# Altium schematic symbol library GenericComponents.SchLib: 86 symbols
Pins are listed as number, name and electrical type; pins without a type are passive.

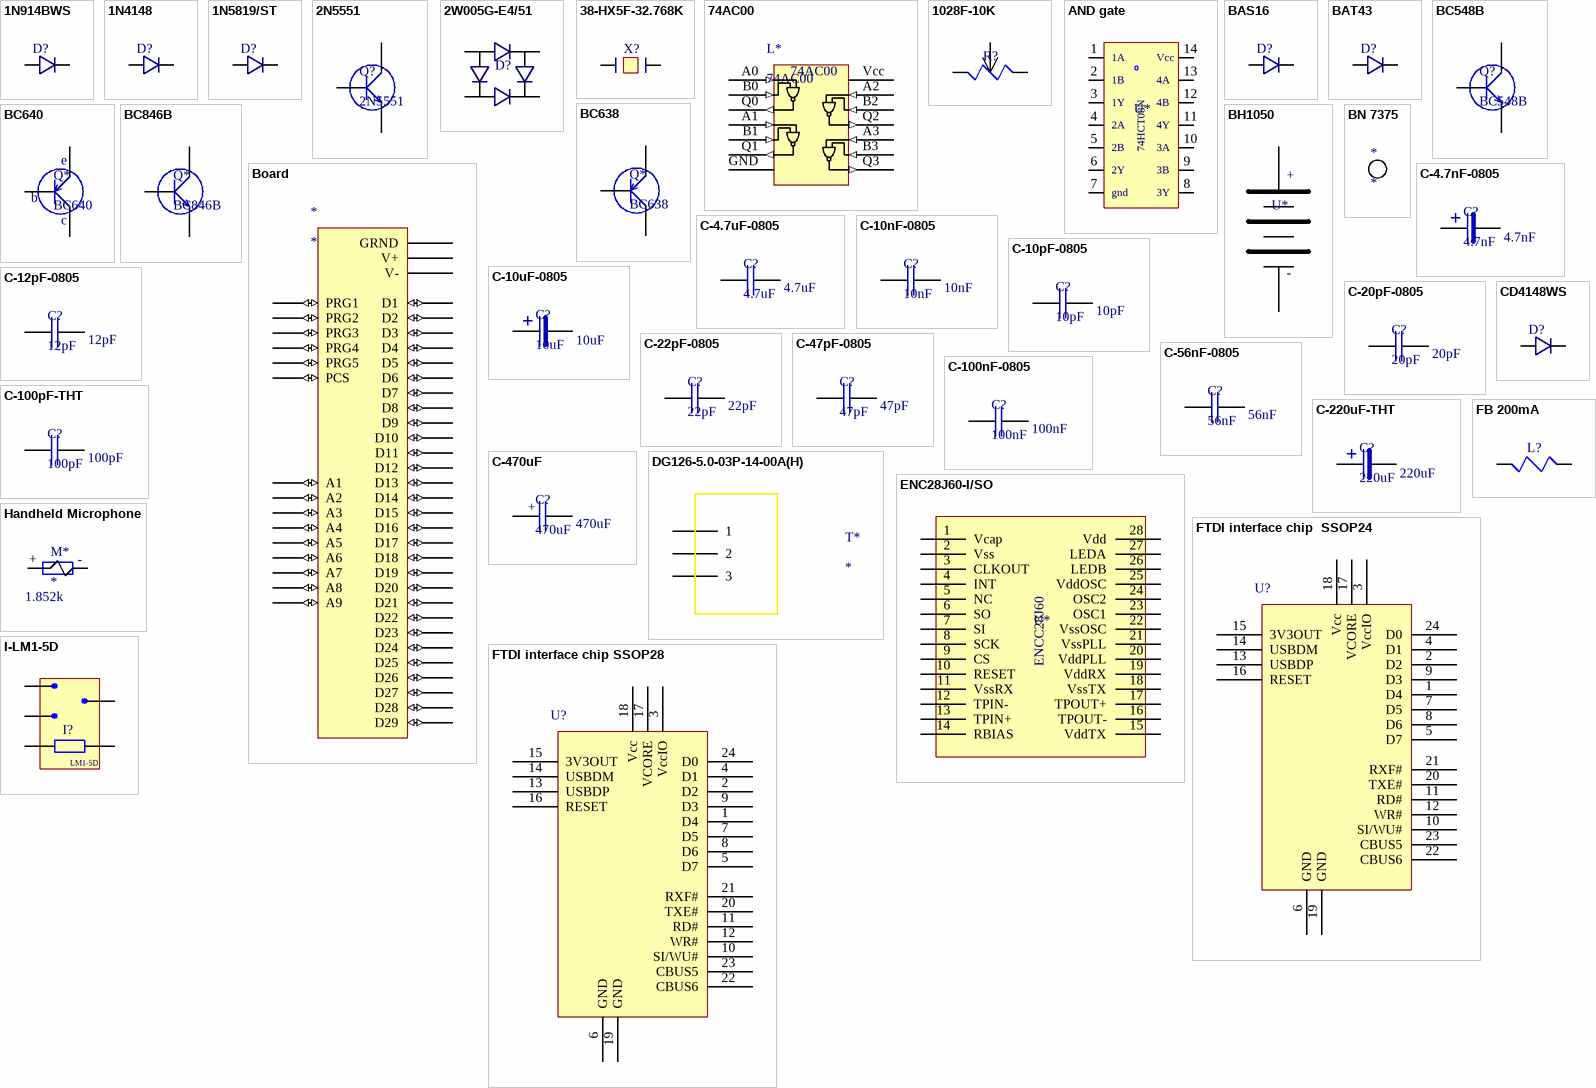
[diagram p0: symbols 1N914BWS to I-LM1-5D]

## 1N914BWS
designator D?  (value not drawn)
Dioda: comutatie; 75V; 50mA; 100mA; SOT23; 6ns; MinQuantity: 25; Cost: 0.072; Link: http://www.tme.eu/en/details/1n914bws/smd-universal-diodes/fairchild-semiconductor/
simulation model 1N914BWS (Model Description)
footprint SMD-0805
pins: 1 C, 2 A

## 1N4148
designator D?  (value not drawn)
Dioda: comutatie; SMD; 100V; 150mA; 4ns; 0805; MinQuantity: 25; Cost: 0.085; Link: http://www.tme.eu/ro/details/1n4148-0805/diode-universale-smd/dc-components/cd4148ws0805c/
simulation model 1N914BWS (Model Description)
footprint SMD-0805
pins: 1 C, 2 A

## 1N5819/ST
designator D?  (value not drawn)
Diode: Schottky rectifying; 40V; 1A; DO41; Package: Ammo Pack; MinQuantity: 25; Cost: 0.21; Link: http://www.tme.eu/ro/details/1n5819_st/diode-schottky-tht/st-microelectronics/1n5819/#
simulation model 1N914BWS (Model Description)
footprint THT2-1CM (THT, 2 slot, 1cm)
pins: 1 C, 2 A

## 2N5551
designator Q?
Tranzistor: bipolar, NPN; 180V; 600mA; 350mW; TO92; MinQuantity: 25; Cost: 0.071; Link: http://www.tme.eu/ro/details/2n5551/tranzistori-tht-npn/diotec-semiconductor/#
footprint TO-92
simulation model 2N5551 (Model Description)
pins: 1 B, 2 E, 3 C

## 2W005G-E4/51
designator D?  (value not drawn)
Punte redresoare; rotund; 50V; 2A; MinQuantity: 25; Code: VISHAY 2W005G-E4/51; Cost: 1.12; Link: http://www.tme.eu/ro/details/2w005g-e4_51/punte-redresoare-diode-unifazica-rotunda/vishay/
simulation model Model Name (Model Description)
footprint 2W005G-E4/51 (Punte redresoare; rotund; 50V; 2A)
pins: 1 +, 2, 3 -, 4

## 38-HX5F-32.768K
designator X?  (value not drawn)
Resonator: quartz; 32.768kHz; ±20ppm; 12.5pF; THT; Ø3.1x8mm; MinQuantity: 1; Cost: 0.718; Link: http://www.tme.eu/ro/details/38-hx5f-32.768k/cristale-de-cuart-tht/ilsi/38-hx5f125-32768khz/#
simulation model 1N914BWS (Model Description)
footprint THT2-254 (THT, 2 slot, 2.54mm)
pins: 1 C, 2 A

## 74AC00
designator L*
Quad 2-Input NAND Gate
footprint SO-14
pins: A0 1 (in), A1 (in), A2 (in), A3 (in), B0 (in), B1 (in), B2 (in), B3 (in), GND (power), Q0 (out), Q1 (out), Q2 (out), Q3 (out), Vcc (power)

## 1028F-10K
designator R?  (value not drawn)
Potentiometru: de montare; singura tura, orizontal; 10kO; 500mW; MinQuantity: 25; Cost: 1.39; Link: http://www.tme.eu/ro/details/1028f-10k/trimere-tht-cu-o-singura-tura/sr-passives/
simulation model 1N914BWS (Model Description)
footprint 1028F-10K (Potentiometru: de montare; singura tura, orizontal; 10kO; 500mW)
pins: 1, 2, 3

## AND gate
designator U*  (value not drawn)
IC: digital; AND; Channels:4; Inputs:2; THT; DIP14; Series: HCT; MinQuantity: 1; Cost: 2.24; Link: https://www.tme.eu/gb/details/74hct08n.652/gates-inverters/nexperia/
footprint DIP-18
pins: 1, 2, 3, 4, 5, 6, 7, 8, 9, 10, 11, 12, 13, 14
text: 1A; Vcc; 1B; 4A; 1Y; 4B; 2A; 74HCT08N; 4Y; 2B; 3A; 2Y; 3B; gnd; 3Y

## BAS16
designator D?  (value not drawn)
Dioda: comutatie; 75V; 50mA; 100mA; SOT23; 6ns; MinQuantity: 25; Code: NXP BAS16.215; Cost: 0.072; Link: http://www.tme.eu/ro/details/bas16/diode-universale-smd/nxp/bas16215/#
footprint SOT-23
simulation model Model Name (Model Description)
pins: 1 C, 3 A

## BAT43
designator D?  (value not drawn)
Dioda: redresoare Schottky; 30V; 15mA; 100mA; DO35; 5ns; MinQuantity: 25; Cost: 0.09; Link: http://www.tme.eu/ro/details/bat43/diode-schottky-tht/st-microelectronics/
simulation model 1N914BWS (Model Description)
footprint THT2-1CM (THT, 2 slot, 1cm)
pins: 1 C, 2 A

## BC548B
designator Q?
Tranzistor: NPN; bipolar; 30V; 100mA; 500mW; TO92; MinQuantity: 25; Cost: 0.08584; Link: http://www.tme.eu/ro/details/bc548b/tranzistori-tht-npn/diotec-semiconductor/
footprint TO-92
simulation model 2N5551 (Model Description)
pins: 1 B, 2 E, 3 C

## BC638
designator Q*
Tranzistor: bipolar, PNP; 60V; 1A; 800mW; TO92; MinQuantity: 10; Cost: 0.175; Link: http://www.tme.eu/ro/details/bc638/tranzistori-tht-pnp/fairchild-semiconductor/bc638ta
footprint TO-92
simulation model BC638 (Model Description)
pins: 1 E, 2 C, 3 B

## BC640
designator Q*
Tranzistor: bipolar, PNP; 60V; 1A; 800mW; TO92; MinQuantity: 10; Cost: 0.189; Link: http://www.tme.eu/ro/details/bc640/tranzistori-tht-pnp
footprint TO-92
simulation model BC640 (Model Description)
pins: 1 E, 2 C, 3 B
text: e; b; c

## BC846B
designator Q*
Tranzistor: bipolar, NPN; 65V; 100mA; SOT23; MinQuantity: 25; Cost: 0.072; Link: http://www.tme.eu/ro/details/bc846b/tranzistori-smd-npn/nxp/bc846b215
footprint SOT-23
simulation model BC846B (Model Description)
pins: 1 B, 2 E, 3 C

## BH1050
designator U*  (value not drawn)
Socket; Size: CR2430; Mounting: horizontal; Leads: for PCB; 7.49mm
footprint BH1050 (Socket; Size: CR2430; Mounting: horizontal; Leads: for PCB; 7.49mm)
pins: 1 +, 2 -

## BN 7375
designator *
footprint BN 7375

## Board
designator *
footprint Standard Board 100x70
pins: A1 (io), A2 (io), A3 (io), A4 (io), A5 (io), A6 (io), A7 (io), A8 (io), A9 (io), D1 (io), D2 (io), D3 (io), D4 (io), D5 (io), D6 (io), D7 (io), D8 (io), D9 (io), D10 (io), D11 (io), D12 (io), D13 (io), D14 (io), D15 (io), D16 (io), D17 (io), D18 (io), D19 (io), D20 (io), D21 (io), D22 (io), D23 (io), D24 (io), D25 (io), D26 (io), D27 (io), D28 (io), D29 (io), GRND, P1 PRG1 (io), P2 PRG2 (io), P3 PRG3 (io), P4 PRG4 (io), P5 PRG5 (io), P+ V+ (power), P- V- (power), PCS (io)

## C-4.7nF-0805
designator C?, comment 4.7nF
Condensator: ceramic; 4,7nF; 6,3V; X5R; ±10%; SMD; 0805; -55÷125°C; MinQuantity: 10; Cost: 0.087; Link: http://www.tme.eu/ro/details/08056d475kat2a/condensatoare-mlcc-smd-0805/avx/#; Value: 4.7nF
footprint SMD-0805
simulation model Model Name (Model Description)
pins: 1, 2

## C-4.7uF-0805
designator C?, comment 4.7uF
Condensator: ceramic; 4.7uF; 50V; X7R; ±10%; SMD; 0805; -55÷125°C; MinQuantity: 10; Cost: 0.031; Link: http://www.tme.eu/en/details/cl21f475zpfnnne/0805-mlcc-smd-capacitors/samsung/; Value: 4.7uF
footprint SMD-0805
simulation model Model Name (Model Description)
pins: 1, 2

## C-10nF-0805
designator C?, comment 10nF
Condensator: ceramic; 10nF; 50V; X7R; ±10%; SMD; 0805; -55÷125°C; MinQuantity: 10; Cost: 0.031; Link: http://www.tme.eu/en/details/08051c103k4z2a/0805-mlcc-smd-capacitors/avx/; Value: 10nF
footprint SMD-0805
simulation model Model Name (Model Description)
pins: 1, 2

## C-10pF-0805
designator C?, comment 10pF
Capacitor: ceramic; 10pF; 100V; C0G; ±5%; SMD; 0805; -55÷125°C; MinQuantity: 10; Code: 08051A100JAT2A; Cost: 0.033; Link: http://www.tme.eu/ro/details/08051a100jat2a/condensatoare-mlcc-smd-0805/avx/#; Value: 10pF
footprint SMD-0805
simulation model Model Name (Model Description)
pins: 1, 2

## C-10uF-0805
designator C?, comment 10uF
Condensator: ceramic; 10uF; 16V; X5R; ±10%; SMD; 0805; -55÷125°C; MinQuantity: 10; Code: C0805C106K4PAC; Cost: 0.417; Link: http://www.tme.eu/ro/details/c0805c106k4pac/condensatoare-mlcc-smd-0805/kemet/#; Value: 10uF
footprint SMD-0805
simulation model Model Name (Model Description)
pins: 1, 2

## C-12pF-0805
designator C?, comment 12pF
Condensator: ceramic; MLCC; 12pF; 50V; C0G; ±5%; SMD; 0805; MinQuantity: 10; Code: CC0805JRNPO9BN120; Cost: 0.033; Link: https://www.tme.eu/ro/details/cc0805jrnpo9120/condensatoare-mlcc-smd-0805/yageo/cc0805jrnpo9bn120/; Value: 12pF
footprint SMD-0805
simulation model Model Name (Model Description)
pins: 1, 2

## C-20pF-0805
designator C?, comment 20pF
Capacitor: ceramic; MLCC; 20pF; 50V; C0G; ±5%; SMD; 0805; -55÷125°C; MinQuantity: 10; Code: CL21C200JBANNNC; Cost: 0.033; Link: http://www.tme.eu/hu/details/cl21c200jbannnc/mlcc-smd-0805-kondenzatorok/samsung/#; Value: 20pF
footprint SMD-0805
simulation model Model Name (Model Description)
pins: 1, 2

## C-22pF-0805
designator C?, comment 22pF
Capacitor: ceramic; 22pF; 50V; C0G; ±5%; SMD; 0805; -55÷125°C; MinQuantity: 10; Code: 08055A220JAT2A; Cost: 1.62; Link: http://www.tme.eu/hu/details/08055a220jat2a/mlcc-smd-0805-kondenzatorok/avx/#; Value: 22pF
footprint SMD-0805
simulation model Model Name (Model Description)
pins: 1, 2

## C-47pF-0805
designator C?, comment 47pF
Condensator: ceramic; 47pF; 50V; C0G; ±5%; SMD; 0805; -55÷125°C; MinQuantity: 10; Code: C0805C470J5GAC; Cost: 0.047; Link: http://www.tme.eu/ro/details/c0805c470j5gac/condensatoare-mlcc-smd-0805/kemet/#; Value: 47pF
footprint SMD-0805
simulation model Model Name (Model Description)
pins: 1, 2

## C-56nF-0805
designator C?, comment 56nF
Condensator: ceramic; 56nF; 50V; X7R; ±10%; SMD; 0805; -55÷125°C; MinQuantity: 10; Cost: 0.031; Link: http://www.tme.eu/en/details/cl21b563kbcnnnc/0805-mlcc-smd-capacitors/samsung/; Value: 56nF
footprint SMD-0805
simulation model Model Name (Model Description)
pins: 1, 2

## C-100nF-0805
designator C?, comment 100nF
Condensator: ceramic; 100nF; 50V; X7R; ±10%; SMD; 0805; -55÷125°C; MinQuantity: 10; Code: AVX 08055C104KAT2A; Cost: 0.031; Link: http://www.tme.eu/ro/details/08055c104kat2a/condensatoare-mlcc-smd-0805/avx/#; Value: 100nF
footprint SMD-0805
simulation model Model Name (Model Description)
pins: 1, 2

## C-100pF-THT
designator C?, comment 100pF
Capacitor: ceramic; MLCC, monolithic; 100pF; 100V; C0G; ±5%; THT; MinQuantity: 10; Code: C315C101J1G5TA; Cost: 0.022; Link: http://www.tme.eu/ro/details/c315c101j1g5ta/condensatoare-mlcc-tht/kemet/#; Value: 100pF
simulation model Model Name (Model Description)
footprint THT2-254 (THT, 2 slot, 2.54mm)
pins: 1, 2

## C-220uF-THT
designator C?, comment 220uF
Condensator: electrolitic; THT; 220uF; 25V; Ø8x20mm; Term: axial; MinQuantity: 10; Code: CE-220/25A; Cost: 1.4; Link: http://www.tme.eu/ro/details/ce-220_25a/condensatoare-electrolitice-tht-85c/; Value: 220uF
simulation model Model Name (Model Description)
footprint THT2cm (Generic THT Component 2cm)
pins: 1, 2

## C-470uF
designator C?, comment 470uF
Condensator: electrolitic; THT; 470uF; 10V; Ø6,3x11mm; MinQuantity: 10; Code: SD1A477M6L011PC; Cost: 0.18; Link: http://www.tme.eu/ro/details/sd1a477m6l011pc/condensatoare-electrolitice-tht-85c/samwha/; Value: 470uF
simulation model Model Name (Model Description)
footprint THT2-254 (THT, 2 slot, 2.54mm)
pins: 1, 2
text: +

## CD4148WS
designator D?  (value not drawn)
Diode: switching; SMD; 100V; 150mA; 4ns; 0805; MinQuantity: 25; Code: CD4148WS(0805C); Cost: 0.0792; Link: http://www.tme.eu/en/details/1n4148-0805/smd-universal-diodes/dc-components/cd4148ws0805c/
footprint SMD-0805
simulation model Model Name (Model Description)
pins: 1 C, 2 A

## DG126-5.0-03P-14-00A(H)
designator T*
Connector
footprint DG126-5.0-03P-14-00A(H) (Connector 3 PIN)
pins: 1, 2, 3

## ENC28J60-I/SO
designator U*  (value not drawn)
Controler Ethernet; 10Base-T; SPI; SO28; 3,1÷3,6V; Link: https://www.tme.eu/ro/details/enc28j60-i_so/circuite-integrate-ethernet/microchip-technology/
footprint SO-28
pins: 1 Vcap, 2 Vss, 3 CLKOUT, 4 INT, 5 NC, 6 SO, 7 SI, 8 SCK, 9 CS, 10 RESET, 11 VssRX, 12 TPIN-, 13 TPIN+, 14 RBIAS, 15 VddTX, 16 TPOUT-, 17 TPOUT+, 18 VssTX, 19 VddRX, 20 VddPLL, 21 VssPLL, 22 VssOSC, 23 OSC1, 24 OSC2, 25 VddOSC, 26 LEDB, 27 LEDA, 28 Vdd
text: ENCC28J60

## FB 200mA
designator L?  (value not drawn)
Ferrite: bead; 150ohm; Mounting: SMD; 200mA; Case:0805; -55÷125°C; MinQuantity: 25; Cost: 1.39; Link: https://www.tme.eu/gb/details/blm21ag151sn1d/ferrite-beads/murata/
footprint SMD-0805
pins: 1, 2

## FTDI interface chip  SSOP24
designator U?  (value not drawn)
Circuit de interfata; USB-FIFO; SSOP24; MinQuantity: 1; Cost: 7.10; Link: http://www.tme.eu/en/details/ft245rl/usb-integrated-circuits/ftdi/
footprint SO-24-ss
pins: 1 D4, 2 D2, 3 VccIO, 4 D1, 5 D7, 6 GND, 7 D5, 8 D6, 9 D3, 10 SI/WU#, 11 RD#, 12 WR#, 13 USBDP, 14 USBDM, 15 3V3OUT, 16 RESET, 17 VCORE, 18 Vcc, 19 GND, 20 TXE#, 21 RXF#, 22 CBUS6, 23 CBUS5, 24 D0

## FTDI interface chip SSOP28
designator U?  (value not drawn)
Circuit de interfata; USB-FIFO; SSOP28; MinQuantity: 1; Cost: 7.10; Link: http://www.tme.eu/en/details/ft245rl/usb-integrated-circuits/ftdi/
footprint SSOP-28
pins: 1 D4, 2 D2, 3 VccIO, 4 D1, 5 D7, 6 GND, 7 D5, 8 D6, 9 D3, 10 SI/WU#, 11 RD#, 12 WR#, 13 USBDP, 14 USBDM, 15 3V3OUT, 16 RESET, 17 VCORE, 18 Vcc, 19 GND, 20 TXE#, 21 RXF#, 22 CBUS6, 23 CBUS5, 24 D0

## Handheld Microphone
designator M*  value 1.852k
footprint SZGH-CNIM-I029958 (Handheld Microphone)
pins: + 1, - 2

## I-LM1-5D
designator I?
Releu: electromagnetic; SPDT; Ubobina:5VDC; 12A/250VAC; 12A/30VDC; MinQuantity: 1; Code: LM1-5D; Cost: 6.47; Link: http://www.tme.eu/ro/details/lm1-5d/relee-electromagnetice-miniatura/rayex-electronic/#
footprint LM1-5D (Releu: electromagnetic;)
pins: 1, 2, 3, 4, 5

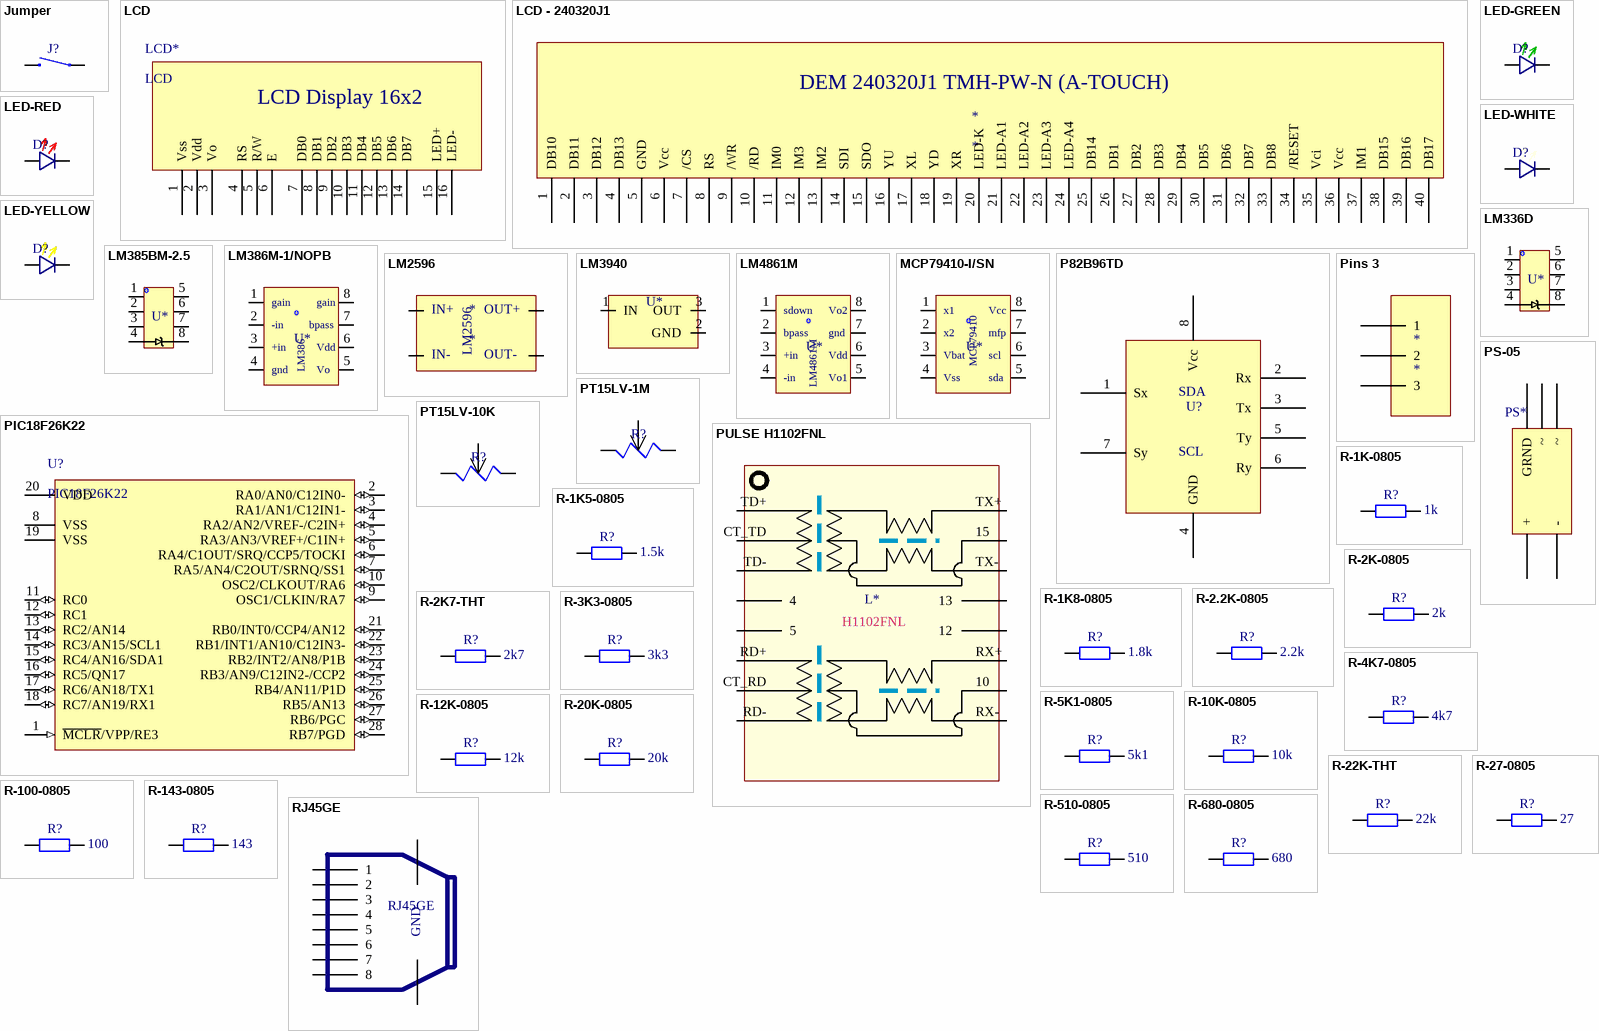
[diagram p1: symbols Jumper to RJ45GE]

## Jumper
designator J?
Jumper; MinQuantity: 1; Cost: 0
footprint THT2-254 (THT, 2 slot, 2.54mm)
pins: 1, 2

## LCD
designator LCD*
Afisaj: LCD; alfanumerice; STN Positive; 16x2; gri; LED; Pini:1x16; Code: RC1602B2-GHW-CSV; MinQuantity: 1; Cost: 29.304; Link: http://www.tme.eu/ro/details/rc1602b2-ghw-csv/afisaje-lcd-alfanumerice/raystar-optronics/#
footprint RC1602B2-GHW-CSV
pins: 1 Vss (power), 2 Vdd (power), 3 Vo, 4 RS, 5 R/W, 6 E, 7 DB0, 8 DB1, 9 DB2, 10 DB3, 11 DB4, 12 DB5, 13 DB6, 14 DB7, 15 LED+, 16 LED-
text: LCD Display 16x2

## LCD - 240320J1
designator *
TFT; 2,4"; 240x320; Ilum: LED; Dim:42,72x60,26x3,9mm; Link: https://www.tme.eu/ro/details/dem240320j1tmh-pwa/afisaje-tft/display-elektronik/dem-240320j1-tmh-pw-n-a-touch/
footprint F0500WR-S-40PT (Conector: FFC (FPC); PIN:40; ZIF, orizontale, contacte superioare)
pins: 1 DB10 (power), 2 DB11 (power), 3 DB12, 4 DB13, 5 GND, 6 Vcc, 7 /CS, 8 RS, 9 /WR, 10 /RD, 11 IM0, 12 IM3, 13 IM2, 14 SDI, 15 SDO, 16 YU, 17 XL, 18 YD, 19 XR, 20 LED-K, 21 LED-A1, 22 LED-A2, 23 LED-A3, 24 LED-A4, 25 DB14, 26 DB1, 27 DB2, 28 DB3, 29 DB4, 30 DB5, 31 DB6, 32 DB7, 33 DB8, 34 /RESET, 35 Vci, 36 Vcc, 37 IM1, 38 DB15, 39 DB16, 40 DB17
text: DEM 240320J1 TMH-PW-N (A-TOUCH)

## LED-GREEN
designator D?  (value not drawn)
LED; SMD; 0805; verde; 4-8mcd; 140°; 2x1,25mm; MinQuantity: 10; Code: LL-S172GC-2A; Cost: 0.446; Link: http://www.tme.eu/ro/details/ll-s172gc-2a/led-uri-smd-0805/lucky-light/#
footprint SMD-0805
simulation model Model Name (Model Description)
pins: 1 A, 2 C

## LED-RED
designator D?  (value not drawn)
LED; SMD; 0805; rosie; 7-13mcd; 140°; 2x1,25mm; MinQuantity: 10; Code: LL-S172SC-2S; Cost: 0.28; Link: http://www.tme.eu/ro/details/ll-s172sc-2s/led-uri-smd-0805/lucky-light/#
footprint SMD-0805
simulation model Model Name (Model Description)
pins: 1 A, 2 C

## LED-WHITE
designator D?  (value not drawn)
LED; 8mm; white cold; 140°; Front: convex; Pitch:5.16mm; 45-55lm; MinQuantity: 10; Code: OS4WM387E1U; Cost: 1.46; Link: http://www.tme.eu/ro/details/os4wm387e1u/led-uri-tht-8mm/optosupply/#
simulation model Model Name (Model Description)
footprint THT2-600 (THT, 2 slot, 6mm)
pins: 1 A, 2 C

## LED-YELLOW
designator D?  (value not drawn)
LED; SMD; 0805; galbena; 5-9mcd; 140°; 2x1,25mm; MinQuantity: 10; Code: LL-S172YC-2Y; Cost: 0.32; Link: http://www.tme.eu/ro/details/ll-s172yc-2y/led-uri-smd-0805/lucky-light/#
footprint SMD-0805
simulation model Model Name (Model Description)
pins: 1 A, 2 C

## LM336D
designator U*  (value not drawn)
Sursa tensiune de referinta; 5,0V; SO8; MinQuantity: 1; Cost: 1.944; Link: http://www.tme.eu/en/details/lm336d-5.0/reference-voltage-sources-circuits/texas-instruments/lm336d-50nopb/
footprint SO-8
pins: 1, 2, 3, 4, 5, 6, 7, 8

## LM385BM-2.5
designator U*  (value not drawn)
Sursa tensiune de referinta; 2,5V; SO8; MinQuantity: 1; Cost: 1.944; Link: http://www.tme.eu/ro/details/lm385bm-2.5nopb/surse-tensiune-de-referinta-circuite/texas-instruments/lm385bm-25nopb/
footprint SO-8
pins: 1, 2, 3, 4, 5, 6, 7, 8

## LM386M-1/NOPB
designator U*  (value not drawn)
Circuit integrat: amplificator audio; 325mW; SO8; MinQuantity: 1; Cost: 3.76; Link: http://www.tme.eu/ro/details/lm386m-1/circuite-integrate-rtv-audio/texas-instruments/lm386m-1nopb/
footprint SO-8
pins: 1, 2, 3, 4, 5, 6, 7, 8
text: gain; -in; bpass; +in; Vdd; LM386; gnd; Vo

## LM2596
designator *
Modul DC-DC Step Down LM2596 Albastru Intrare 3 - 35 V SMD; Link: https://www.optimusdigital.ro/ro/surse-coboratoare-reglabile/562-modul-dc-dc-step-down-lm2596-albastru-intrare-3-35-v-smd.html
footprint LM2596 (Modul DC-DC Step Down LM2596)
pins: 1, 2, 3, 4
text: IN+; OUT+; IN-; OUT-

## LM3940
designator U*  (value not drawn)
Voltage regulator; LDO, fixed; 3.3V; 1A; SOT223; SMD; MinQuantity: 1; Cost: 5.25; Link: https://www.tme.eu/en/details/lm3940imp-3.3/ldo-unregulated-voltage-regulators/texas-instruments/lm3940imp-33nopb/
footprint SOT223
pins: 1 IN, 2 GND, 3 OUT

## LM4861M
designator U*  (value not drawn)
Circuit integrat: amplificator audio; 1,1W; SO8; MinQuantity: 1; Cost: 7.04; Link: http://www.tme.eu/ro/details/lm4861m/circuite-integrate-rtv-audio/texas-instruments/lm4861mnopb/
footprint SO-8
pins: 1, 2, 3, 4, 5, 6, 7, 8
text: sdown; Vo2; bpass; gnd; +in; Vdd; -in; Vo1

## MCP79410-I/SN
designator U*  (value not drawn)
RTC circuit; I2C; SRAM; 64B; 1.8÷5.5VDC; SO8; MinQuantity: 1; Cost: 4.34; Link: http://www.tme.eu/ro/details/mcp79410-i_sn/circuite-rtc/microchip-technology/#
footprint SO-8
pins: 1, 2, 3, 4, 5, 6, 7, 8
text: x1; Vcc; x2; mfp; MCP79410; Vbat; scl; Vss; sda

## P82B96TD
designator U?  (value not drawn)
Interfata; transceiver; I2C, SMBus; Canale:1; 2÷15VDC; SO8; MinQuantity: 1; Cost: 10.35; Link: http://www.tme.eu/ro/details/p82b96td/circuite-integrate-i2c/nxp/p82b96td112/
footprint SO-8
pins: 1 Sx, 2 Rx, 3 Tx, 4 GND, 5 Ty, 6 Ry, 7 Sy, 8 Vcc
text: SDA; SCL

## PIC18F26K22
designator U?
Microcontroler PIC; EEPROM:1024B; SRAM:3896B; 64MHz; SSOP28; MinQuantity: 1; Published: 29-Jan-2009; LatestRevisionDate: 02-Dec-2009; LatestRevisionNote: Updated to datasheet revision F, Sep-2009; DatasheetVersion: revF, Sep-2009; PackageVersion: revBB, Aug-2009; PackageReference: SSOP-SS28; Publisher: Altium Limited; PackageDescription: 28-Lead Plastic Shrink Small Outline (SS) - 5.3mm Body [SSOP]; Supplier 1: Digi-Key; Supplier Part Number 1: PIC18F26K20-I/SS-ND; Supplier 2: Farnell; Supplier Part Number 2: 1439582; Code_JEDEC: MS-150; Code_IPC: SOP65P780-28; ComponentLink1Description: Datasheet; ComponentLink1URL: http://ww1.microchip.com/downloads/en/DeviceDoc/41303F.pdf; ComponentLink2Description: Packaging Specification; ComponentLink2URL: http://www.microchip.com/stellent/groups/techpub_sg/documents/packagingspec/en012702.pdf; ComponentLink3Description: Microchip.com Home; ComponentLink3URL: http://www.microchip.com/; Link: http://www.tme.eu/ro/details/pic18f26k22-i_ss/microcontrolere-microchip-de-8-biti/microchip-technology/; Cost: 7.093
footprint SSOP-28
footprint SO-28
pins: 1 ~{MCLR}/VPP/RE3 (in), 2 RA0/AN0/C12IN0- (io), 3 RA1/AN1/C12IN1- (io), 4 RA2/AN2/VREF-/C2IN+ (io), 5 RA3/AN3/VREF+/C1IN+ (io), 6 RA4/C1OUT/SRQ/CCP5/TOCKI (io), 7 RA5/AN4/C2OUT/SRNQ/SS1 (io), 8 VSS (power), 9 OSC1/CLKIN/RA7 (io), 10 OSC2/CLKOUT/RA6 (io), 11 RC0 (io), 12 RC1 (io), 13 RC2/AN14 (io), 14 RC3/AN15/SCL1 (io), 15 RC4/AN16/SDA1 (io), 16 RC5/QN17 (io), 17 RC6/AN18/TX1 (io), 18 RC7/AN19/RX1 (io), 19 VSS (power), 20 VDD (power), 21 RB0/INT0/CCP4/AN12 (io), 22 RB1/INT1/AN10/C12IN3- (io), 23 RB2/INT2/AN8/P1B (io), 24 RB3/AN9/C12IN2-/CCP2 (io), 25 RB4/AN11/P1D (io), 26 RB5/AN13 (io), 27 RB6/PGC (io), 28 RB7/PGD (io)

## Pins 3
designator *
footprint THT3-254 (THT, 3 slot, 2.54mm)
pins: 1, 2, 3

## PS-05
designator PS*  (value not drawn)
5W Single Output Switching Power Supply
footprint PS-05 (5W Single Output Switching Power Supply)
pins: I1 GRND (power), I2 ~ (power), I3 ~ (power), O1 + (power), O2 - (power)

## PT15LV-1M
designator R?  (value not drawn)
Potentiometru: de montare; singura tura, orizontal; 1M; 250mW; MinQuantity: 25; Cost: 1.2679; Link: http://www.tme.eu/ro/details/pt15lv-1m/trimere-tht-cu-o-singura-tura/piher/pt15lv02105a3030/
simulation model 1N914BWS (Model Description)
footprint PT15LV (Potentiometru: de montare; singura tura, orizontal; 1M; 250mW)
pins: 1, 2, 3

## PT15LV-10K
designator R?  (value not drawn)
Potentiometru: de montare; singura tura, orizontal; 1M; 250mW; MinQuantity: 25; Cost: 0.80; Link: http://www.tme.eu/ro/details/pt15lv-10k/trimere-tht-cu-o-singura-tura/piher/pt15lv02103a3030/
simulation model 1N914BWS (Model Description)
footprint PT15LV (Potentiometru: de montare; singura tura, orizontal; 1M; 250mW)
pins: 1, 2, 3

## PULSE H1102FNL
designator L*  (value not drawn)
Transformer: Ethernet; SMD; Trans: RX 1:1,TX 1:1; -1.1dB; 0÷70°C; Link: https://www.tme.eu/gb/details/h1102fnl/smd-inductors-others/pulse/
footprint H1102FNL (Transformer: Ethernet; SMD; Trans: RX 1:1,TX 1:1; -1.1dB; 0÷70°C)
pins: 4, 5, 10, 12, 13, 15, CT_RD 7, CT_TD 2, RD+ 6, RD- 8, RX+ 11, RX- 9, TD+ 1, TD- 3, TX+ 16, TX- 14
text: H1102FNL

## R-1K5-0805
designator R?, comment value 1.5k  (hidden comment: 1K5)
Rezistor: thick film; SMD; 0805; 1,5kO; 0,3W; ±5%; -55÷155°C; MinQuantity: 10; Code: HP05W3J0152T5E; Cost: 0.027; Link: http://www.tme.eu/ro/details/hp05-1k55%25/rezistente-smd-0805/royal-ohm/hp05w3j0152t5e/#
footprint SMD-0805
simulation model Model Name (Model Description)
pins: 1, 2

## R-1K8-0805
designator R?, comment value 1.8k  (hidden comment: 1K8)
Rezistor: thick film; SMD; 0805; 1,8k; 0,125W; ±1%; -55÷155°C; MinQuantity: 10; Code: CRCW08051K80FKTABC; Cost: 0.052; Link: http://www.tme.eu/ro/details/crcw08051k80fktabc/rezistente-smd-0805/vishay/#
footprint SMD-0805
simulation model Model Name (Model Description)
pins: 1, 2

## R-1K-0805
designator R?, comment 1K
Rezistor: thick film; SMD; 0805; 1kO; 0,125W; ±5%; -55÷155°C; MinQuantity: 100; Code: RC0805JR-071KL; Cost: 0.027; Link: http://www.tme.eu/ro/details/rc0805jr-071k/rezistente-smd-0805/yageo/rc0805jr-071kl/#; Value: 1k
footprint SMD-0805
simulation model Model Name (Model Description)
pins: 1, 2

## R-2.2K-0805
designator R?, comment value 2.2k  (hidden comment: 20K)
Rezistor: thick film; SMD; 0805; 2,2kO; 0,125W; ±1%; -55÷155°C; MinQuantity: 100; Code: CRCW08052K20FKEA; Cost: 0.023; Link: https://www.tme.eu/ro/details/crcw08052k20fkea/rezistente-smd-0805/vishay/
footprint SMD-0805
simulation model Model Name (Model Description)
pins: 1, 2

## R-2K7-THT
designator R?, comment 2K7
Rezistor: de carbon; THT; 2,7kO; 250mW; ±5%; Ø2,3x6mm; Term: axial; MinQuantity: 100; Code: CF1/4W-2K7; Cost: 0.027; Link: http://www.tme.eu/ro/details/cf1_4w-2k7/rezistente-carbon-tht-14w/sr-passives/#; Value: 2k7
footprint THT2cm (Generic THT Component 2cm)
simulation model Model Name (Model Description)
pins: 1, 2

## R-2K-0805
designator R?, comment 2K
Rezistor: thick film; SMD; 0805; 2kO; 0,125W; ±5%; -55÷155°C; MinQuantity: 100; Code: RC0805JR-071KL; Cost: 0.027; Link: http://www.tme.eu/ro/details/rc0805jr-071k/rezistente-smd-0805/yageo/rc0805jr-071kl/#; Value: 2k
footprint SMD-0805
simulation model Model Name (Model Description)
pins: 1, 2

## R-3K3-0805
designator R?, comment 3K3
Rezistor: thick film; SMD; 0805; 4,7kO; 125mW; ±5%; -55÷155°C; MinQuantity: 5000; Code: CRCW08054K70JNEA; Cost: 0.012; Link: http://www.tme.eu/ro/details/crcw08054k70jnea/rezistente-smd-0805/vishay/#; Value: 3k3
footprint SMD-0805
simulation model Model Name (Model Description)
pins: 1, 2

## R-4K7-0805
designator R?, comment 4K7
Rezistor: thick film; SMD; 0805; 4,7kO; 125mW; ±5%; -55÷155°C; MinQuantity: 5000; Code: CRCW08054K70JNEA; Cost: 0.012; Link: http://www.tme.eu/ro/details/crcw08054k70jnea/rezistente-smd-0805/vishay/#; Value: 4k7
footprint SMD-0805
simulation model Model Name (Model Description)
pins: 1, 2

## R-5K1-0805
designator R?, comment 5k1
Rezistor: thick film; SMD; 0805; 5,1kO; 125mW; ±5%; -55÷155°C; MinQuantity: 5000; Code: CRCW08054K70JNEA; Cost: 0.012; Link: http://www.tme.eu/ro/details/crcw08054k70jnea/rezistente-smd-0805/vishay/#; Value: 5k1
footprint SMD-0805
simulation model Model Name (Model Description)
pins: 1, 2

## R-10K-0805
designator R?, comment 10K
Rezistor: thick film; SMD; 0805; 10kO; 125mW; ±1%; -55÷155°C; MinQuantity: 100; Code: CRCW080510K0FKEA; Cost: 0.027; Link: http://www.tme.eu/ro/details/crcw080510k0fkea/rezistente-smd-0805/vishay/#; Value: 10k
footprint SMD-0805
simulation model Model Name (Model Description)
pins: 1, 2

## R-12K-0805
designator R?, comment 12K
Rezistor: thick film; SMD; 0805; 12kO; 0,125W; ±1%; -55÷155°C; MinQuantity: 100; Code: CRCW080512K0FKTABC; Cost: 0.0441; Link: http://www.tme.eu/ro/details/crcw080512k0fktabc/rezistente-smd-0805/vishay/; Value: 12k
footprint SMD-0805
simulation model Model Name (Model Description)
pins: 1, 2

## R-20K-0805
designator R?, comment 20K
Rezistor: thick film; SMD; 0805; 20kO; 0,125W; ±5%; -55÷155°C; MinQuantity: 100; Code: RC0805JR-0720KL; Cost: 0.023; Link: http://www.tme.eu/ro/details/rc0805jr-0720k/rezistente-smd-0805/yageo/rc0805jr-0720kl/; Value: 20k
footprint SMD-0805
simulation model Model Name (Model Description)
pins: 1, 2

## R-22K-THT
designator R?, comment 22K
Rezistor: de carbon; THT; 22k; 250mW; ±5%; Ø2,3x6mm; Term: axial; MinQuantity: 100; Code: CF1/4W-22K; Cost: 0.027; Link: http://www.tme.eu/ro/details/cf1_4w-22k/rezistente-carbon-tht-14w/sr-passives/#; Value: 22k
footprint THT2cm (Generic THT Component 2cm)
simulation model Model Name (Model Description)
pins: 1, 2

## R-27-0805
designator R?, comment 27
Rezistor: thick film; SMD; 0805; 27ohm; 0,125W;; MinQuantity: 100; Code: SMD0805-27R; Cost: 0.027; Link: http://www.tme.eu/ro/details/smd0805-27r/rezistente-smd-0805/royal-ohm/0805s8j0270t5e/#; Value: 27
footprint SMD-0805
simulation model Model Name (Model Description)
pins: 1, 2

## R-100-0805
designator R?, comment 100
Rezistor: thick film; SMD; 0805; 100O; 125mW; ±1%; -55÷155°C; Code: CRCW0805100RFKEA; Cost: 0.015; Link: http://www.tme.eu/ro/details/crcw0805100rfkea/rezistente-smd-0805/vishay/#; MinQuantity: 100; Value: 100
footprint SMD-0805
simulation model Model Name (Model Description)
pins: 1, 2

## R-143-0805
designator R?, comment 143
Rezistor: thick film; SMD; 0805; 143O; 125mW; ±1%; -55÷155°C; MinQuantity: 100; Code: CRCW0805143RFKTABC; Cost: 0.034; Link: http://www.tme.eu/ro/details/crcw0805143rfktabc/rezistente-smd-0805/vishay/#; Value: 143
footprint SMD-0805
simulation model Model Name (Model Description)
pins: 1, 2

## R-510-0805
designator R?, comment 510
Rezistor: thick film; SMD; 0805; 510O; 125mW; ±1%; -55÷155°C; MinQuantity: 100; Code: CRCW0805510RFKTABC; Cost: 0.027; Link: http://www.tme.eu/ro/details/crcw0805510rfktabc/rezistente-smd-0805/vishay/#; Value: 510
footprint SMD-0805
simulation model Model Name (Model Description)
pins: 1, 2

## R-680-0805
designator R?, comment 680
Rezistor: thick film; SMD; 0805; 680O; 125mW; ±1%; -55÷155°C; MinQuantity: 100; Code: CRCW0805680RFKTABC; Cost: 0.035; Link: http://www.tme.eu/ro/details/crcw0805680rfktabc/rezistente-smd-0805/vishay/#; Value: 680
footprint SMD-0805
simulation model Model Name (Model Description)
pins: 1, 2

## RJ45GE
designator RJ45GE  (value not drawn)
Soclu; RJ45; PIN:8; ecranat; Dispunere pini:8p8c; THT
footprint RJ45GE (Soclu; RJ45; PIN:8; ecranat; Dispunere pini:8p8c; THT)
pins: 1, 2, 3, 4, 5, 6, 7, 8, GND-1 9, GND-2 10
text: GND

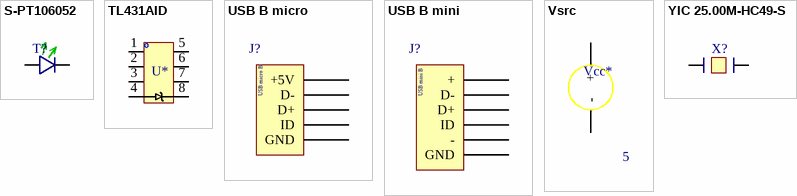
[diagram p2: symbols S-PT106052 to YIC 25.00M-HC49-S]

## S-PT106052
designator T?  (value not drawn)
Senzor: de temperatura, Pt1000; 1kO; cl.B 0,12 %; 3,85nppm/°C; MinQuantity: 1; Cost: 12.655; Link: http://www.tme.eu/ro/details/pt106052/senzori-rezistenti-la-temperatura/#; Code: PT106052
footprint THT2-254 (THT, 2 slot, 2.54mm)
pins: 1 A, 2 C

## TL431AID
designator U*  (value not drawn)
Sursa tensiune de referinta; 2,5V; SO8; MinQuantity: 1; Cost: 1.944; Link: http://www.tme.eu/en/details/tl431aid/reference-voltage-sources-circuits/texas-instruments/
footprint SO-8
pins: 1, 2, 3, 4, 5, 6, 7, 8

## USB B micro
designator J?
Soclu; USB B micro; SMT; orizontale; V: USB 2.0;; MinQuantity: 1; Code: MCR-B-S-RA-TSMTEH1; Cost: 1.875; Link: http://www.tme.eu/ro/details/mcr-b-s-ra-tsmteh1/conectori-usb-ieee1394/adam-tech/mcr-b-s-ra-tsmt-eh1/#
footprint Micro USB type B
pins: 1 +5V, 2 D-, 3 D+, 4 ID, 5 GND
text: USB micro B

## USB B mini
designator J?
Soclu, USB C mini; SMT; PIN:5; orizontale; V: USB 2.0;; MinQuantity: 1; Code: ECE ESB35101000Z; Cost: 4.398; Link: http://www.tme.eu/ro/details/esb35101000z/conectori-usb-ieee1394/ece/#
footprint Mini USB type B
pins: 1 +, 2 D-, 3 D+, 4 ID, 5 -, GND
text: USB mini B

## Vsrc
designator Vcc*, comment 5
Voltage Source; Value: 5
simulation model Vcc (Voltage Source)
pins: GND -, Vcc + (power)

## YIC 25.00M-HC49-S
designator X?  (value not drawn)
Rezonator: de cuart; 25MHz; THT; MinQuantity: 1; Cost: 0.718; Link: https://www.tme.eu/ro/details/25.00m-hc49-s/cristale-de-cuart-tht/yic/
simulation model 1N914BWS (Model Description)
footprint THT2-488 (THT, 2 slot, 4.88mm)
pins: 1 C, 2 A